# EAGLE library part ACSL-6410 (library BMS)
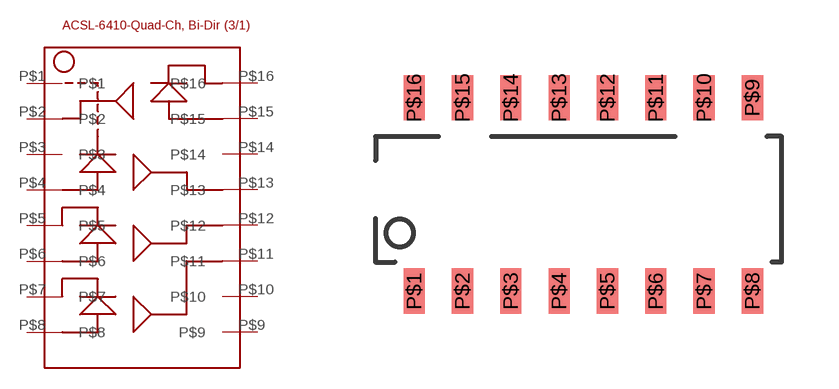
[diagram p4: symbol with the pads of ACSL-6410-SO16; footprint ACSL-6410-SO16]

Designator prefix -

## ACSL-6410  [ACSL-6410-SO16]
P$1  P$1
P$2  P$2
P$3  P$3
P$4  P$4
P$5  P$5
P$6  P$6
P$7  P$7
P$8  P$8
P$9  P$9
P$10  P$10
P$11  P$11
P$12  P$12
P$13  P$13
P$14  P$14
P$15  P$15
P$16  P$16

## Footprint ACSL-6410-SO16 (pad centres in mm)
smd 0.559 x 1.194: P$1 0,0; P$2 1.27,0; P$3 2.54,0; P$4 3.81,0; P$5 5.08,0; P$6 6.35,0; P$7 7.62,0; P$8 8.89,0; P$9 8.89,5.08; P$10 7.62,5.08; P$11 6.35,5.08; P$12 5.08,5.08; P$13 3.81,5.08; P$14 2.54,5.08; P$15 1.27,5.08; P$16 0,5.08